# Altium footprint library BSPO.PcbLib: 178 footprints (part 7 of 12)
Each footprint in its own frame and in the unit in brackets; x right, y up, seen from the top. Pads: shape width x height; smd on the part's side, far side on the other; paste and mask are expansions set on the pad; w line width, h text height; cw(c..) or ccw(c..) is an arc to the next point about the centre after c.
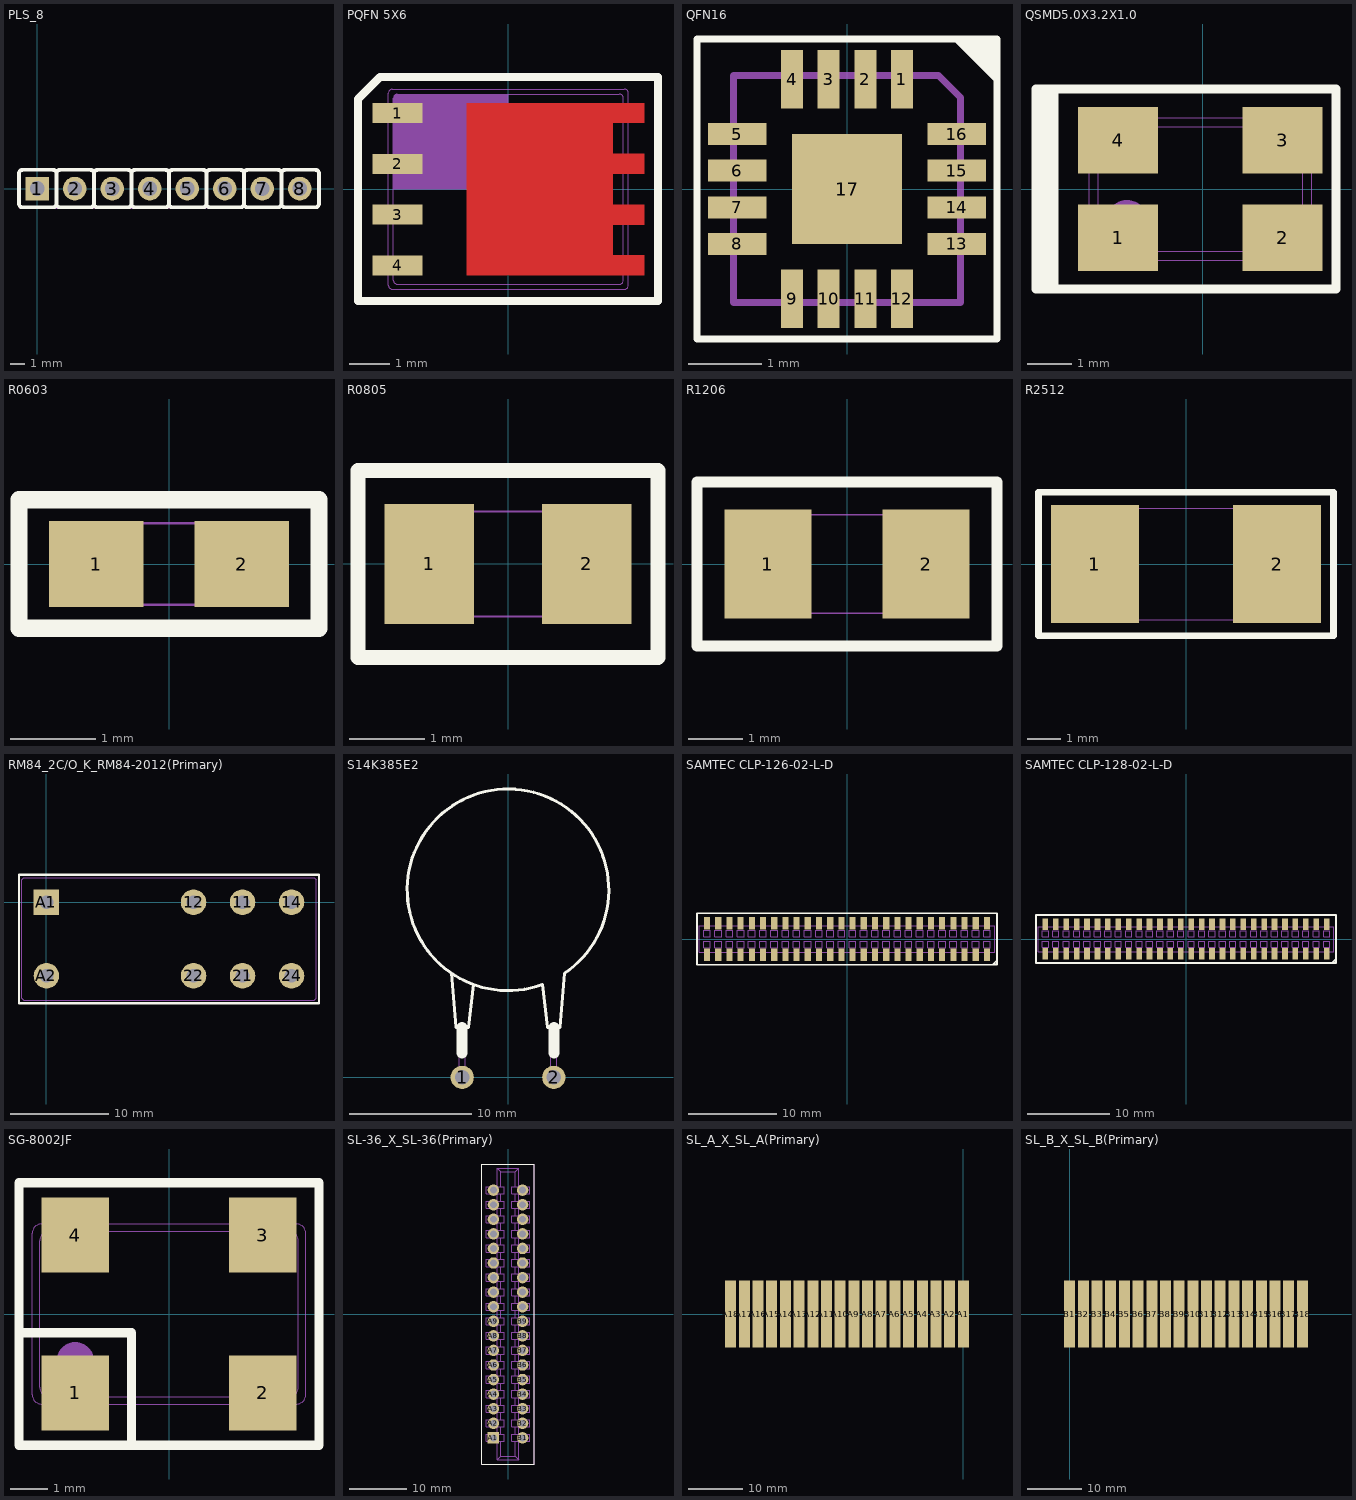
[diagram p6: the footprints below, top view; thin cyan lines are the x and y axes]

## PLS_8 [mm]
pads (8):
  rect 1.6x1.6 hole 1: 1(0,0)
  round 1.6 hole 1: 2(2.54,0) 3(5.08,0) 4(7.62,0) 5(10.16,0) 6(12.7,0) 7(15.24,0) 8(17.78,0)
Top Overlay:
  lines w0.25: 1.05,-1.27 ccw(c1.05,-1.02) 1.3,-1.02 ; 1.05,-1.27 -0.99,-1.27 cw(c-0.99,-1.02) -1.24,-1.02 -1.24,1.02 cw(c-0.99,1.02) -0.99,1.27 1.05,1.27 cw(c1.05,1.02) 1.3,1.02 ; 3.59,-1.27 ccw(c3.59,-1.02) 3.84,-1.02 ; 3.59,-1.27 1.55,-1.27 cw(c1.55,-1.02) 1.3,-1.02 ; 6.13,-1.27 ccw(c6.13,-1.02) 6.38,-1.02 ; 6.13,-1.27 4.09,-1.27 cw(c4.09,-1.02) 3.84,-1.02 ; 8.67,-1.27 ccw(c8.67,-1.02) 8.92,-1.02 ; 8.67,-1.27 6.63,-1.27 cw(c6.63,-1.02) 6.38,-1.02 ; 11.21,-1.27 ccw(c11.21,-1.02) 11.46,-1.02 ; 11.21,-1.27 9.17,-1.27 cw(c9.17,-1.02) 8.92,-1.02 ; 13.75,-1.27 ccw(c13.75,-1.02) 14,-1.02 ; 13.75,-1.27 11.71,-1.27 cw(c11.71,-1.02) 11.46,-1.02 ; 16.29,-1.27 ccw(c16.29,-1.02) 16.54,-1.02 ; 16.29,-1.27 14.25,-1.27 cw(c14.25,-1.02) 14,-1.02 ; 18.83,-1.27 ccw(c18.83,-1.02) 19.08,-1.02 19.08,1.02 ccw(c18.83,1.02) 18.83,1.27 16.79,1.27 ccw(c16.79,1.02) 16.54,1.02 ; 18.83,-1.27 16.79,-1.27 cw(c16.79,-1.02) 16.54,-1.02 ; 1.3,-1.02 1.3,1.02 ; 1.3,1.02 cw(c1.55,1.02) 1.55,1.27 3.59,1.27 cw(c3.59,1.02) 3.84,1.02 ; 3.84,-1.02 3.84,1.02 ; 3.84,1.02 cw(c4.09,1.02) 4.09,1.27 6.13,1.27 cw(c6.13,1.02) 6.38,1.02 ; 6.38,-1.02 6.38,1.02 ; 6.38,1.02 cw(c6.63,1.02) 6.63,1.27 8.67,1.27 cw(c8.67,1.02) 8.92,1.02 ; 8.92,-1.02 8.92,1.02 ; 8.92,1.02 cw(c9.17,1.02) 9.17,1.27 11.21,1.27 cw(c11.21,1.02) 11.46,1.02 ; 11.46,-1.02 11.46,1.02 ; 11.46,-1.02 11.46,1.02 ; 11.46,1.02 cw(c11.71,1.02) 11.71,1.27 13.75,1.27 cw(c13.75,1.02) 14,1.02 ; 14,-1.02 14,1.02 ; 14,-1.02 14,1.02 ; 14,1.02 cw(c14.25,1.02) 14.25,1.27 16.29,1.27 cw(c16.29,1.02) 16.54,1.02 ; 16.54,-1.02 16.54,1.02 ; 16.54,-1.02 16.54,1.02
Mechanical 1:
  lines w0.01: -1.21,-1.32 11.44,-1.32 ; -1.21,-1.31 -1.21,1.24 ; -1.21,1.25 11.44,1.25 ; 1.28,-1.32 1.28,1.23 ; 3.85,-1.3 3.85,1.25 ; 6.43,-1.3 6.43,1.25 ; 8.92,-1.29 8.92,1.25 ; 11.44,-1.31 11.44,1.23 ; 11.49,-1.31 11.49,1.24 ; 14.03,-1.31 14.03,1.24 ; 16.57,-1.31 16.57,1.24 ; 19.06,-1.31 19.06,1.23 ; 13.98,-1.31 13.98,1.23 13.98,-1.31 ; 16.52,-1.31 16.52,1.23 16.52,-1.31

## PQFN 5X6 [mm]
pads (5):
  rect 1.25x0.5 smd: 1(-2.77,1.905) 2(-2.77,0.635) 3(-2.77,-0.635) 4(-2.77,-1.905)
  round 0 smd paste-25.4: 5(1.18,0)
Top Layer:
  region: -1.045,-2.155 3.395,-2.155 3.395,-1.655 2.605,-1.655 2.605,-0.885 3.395,-0.885 3.395,-0.385 2.605,-0.385 2.605,0.385 3.395,0.385 3.395,0.885 2.605,0.885 2.605,1.655 3.395,1.655 3.395,2.155 -1.045,2.155
Top Overlay:
  lines w0.2: -3.76,-2.795 3.74,-2.795 3.74,2.805 -3.21,2.805 -3.76,2.255 -3.76,-2.795
Top Paste:
  region: -1.045,-2.155 3.395,-2.155 3.395,-1.655 2.605,-1.655 2.605,-0.885 3.395,-0.885 3.395,-0.385 2.605,-0.385 2.605,0.385 3.395,0.385 3.395,0.885 2.605,0.885 2.605,1.655 3.395,1.655 3.395,2.155 -1.045,2.155
  region: -1.045,-2.155 3.395,-2.155 3.395,-1.655 2.605,-1.655 2.605,-0.885 3.395,-0.885 3.395,-0.385 2.605,-0.385 2.605,0.385 3.395,0.385 3.395,0.885 2.605,0.885 2.605,1.655 3.395,1.655 3.395,2.155 -1.045,2.155
Mechanical 1:
  region: -2.875,0 0,0 0,2.375 -2.775,2.375 -2.825,2.362 -2.862,2.325 -2.875,2.275
  lines w0.02: 2.9,2.5 cw(c2.9,2.4) 3,2.4 ; 2.9,2.5 cw(c2.9,2.4) 3,2.4 ; 2.9,2.5 -2.9,2.5 ccw(c-2.9,2.4) -3,2.4 -3,-2.4 ccw(c-2.9,-2.4) -2.9,-2.5 2.9,-2.5 ccw(c2.9,-2.4) 3,-2.4 3,2.4 ; -2.875,-2.275 ccw(c-2.775,-2.275) -2.775,-2.375 2.775,-2.375 ccw(c2.775,-2.275) 2.875,-2.275 2.875,2.275 ccw(c2.775,2.275) 2.775,2.375 -2.775,2.375 ccw(c-2.775,2.275) -2.875,2.275 -2.875,-2.275

## QFN16 [mm]
pads (17):
  rect 0.3x0.8 smd: 1(0.75,1.5) 2(0.25,1.5) 3(-0.25,1.5) 4(-0.75,1.5) 9(-0.75,-1.5) 10(-0.25,-1.5) 11(0.25,-1.5) 12(0.75,-1.5)
  rect 0.8x0.3 smd: 5(-1.5,0.75) 6(-1.5,0.25) 7(-1.5,-0.25) 8(-1.5,-0.75) 13(1.5,-0.75) 14(1.5,-0.25) 15(1.5,0.25) 16(1.5,0.75)
  rect 1.5x1.5 smd: 17(0,0)
Top Overlay:
  region: 1.55,2.05 2.05,1.55 2.05,2.05
  lines w0.1: 1.5,2.05 2.05,1.5 ; -2.05,-2.05 2.05,-2.05 2.05,2.05 -2.05,2.05 -2.05,-2.05
Mechanical 1:
  lines w0.1: -1.55,-1.55 1.55,-1.55 1.55,1.25 1.25,1.55 -1.55,1.55 -1.55,-1.55

## QSMD5.0X3.2X1.0 [mm]
pads (4):
  rect 1.8x1.5 smd: 1(-1.9,-1.1) 2(1.8,-1.1) 3(1.8,1.1) 4(-1.9,1.1)
Top Overlay:
  region: -3.75,-2.25 -3.25,-2.25 -3.25,2.25 -3.75,2.25
  lines w0.2: -3.75,-2.25 3,-2.25 3,2.25 -3.75,2.25 -3.75,-2.25
Mechanical 1:
  circle w0.5: c-1.7,-0.75 r0.25
  lines w0.025: -2.55,-1.35 ccw(c-2.3,-1.35) -2.3,-1.6 2.2,-1.6 ccw(c2.2,-1.35) 2.45,-1.35 2.45,1.35 ccw(c2.2,1.35) 2.2,1.6 -2.3,1.6 ccw(c-2.3,1.35) -2.55,1.35 -2.55,-1.35 ; -2.35,-1.15 ccw(c-2.1,-1.15) -2.1,-1.4 2,-1.4 ccw(c2,-1.15) 2.25,-1.15 2.25,1.15 ccw(c2,1.15) 2,1.4 -2.1,1.4 ccw(c-2.1,1.15) -2.35,1.15 -2.35,-1.15

## R0603 [mm]
pads (2):
  rect 1.1x1 smd: 1(-0.85,0) 2(0.85,0)
Top Overlay:
  lines w0.2: -1.75,-0.75 1.75,-0.75 1.75,0.75 -1.75,0.75 -1.75,-0.75
Mechanical 1:
  lines w0.025: -0.55,-0.475 -0.55,0.475 ; 0.55,-0.475 0.55,0.475 ; -0.85,-0.475 0.85,-0.475 0.85,0.475 -0.85,0.475 -0.85,-0.475

## R0805 [mm]
pads (2):
  rect 1.2x1.6 smd: 1(-1.05,0) 2(1.05,0)
Top Overlay:
  lines w0.2: -2,-1.25 2,-1.25 2,1.25 -2,1.25 -2,-1.25
Mechanical 1:
  lines w0.025: -0.55,-0.7 -0.55,0.7 ; 0.55,-0.7 0.55,0.7 ; -1.1,-0.7 1.1,-0.7 1.1,0.7 -1.1,0.7 -1.1,-0.7

## R1206 [mm]
pads (2):
  rect 1.6x2 smd: 1(-1.45,0) 2(1.45,0)
Top Overlay:
  lines w0.2: -2.75,-1.5 2.75,-1.5 2.75,1.5 -2.75,1.5 -2.75,-1.5
Mechanical 1:
  lines w0.025: -0.95,-0.9 -0.95,0.9 ; 0.95,-0.9 0.95,0.9 ; -1.7,-0.9 1.7,-0.9 1.7,0.9 -1.7,0.9 -1.7,-0.9

## R2512 [mm]
pads (2):
  rect 2.6x3.5 smd: 1(-2.7,0) 2(2.7,0)
Top Overlay:
  lines w0.2: -4.375,-2.125 4.375,-2.125 4.375,2.125 -4.375,2.125 -4.375,-2.125
Mechanical 1:
  lines w0.02: -2.55,-1.65 -2.55,1.65 ; 2.55,-1.65 2.55,1.65 ; -3.25,-1.65 3.25,-1.65 3.25,1.65 -3.25,1.65 -3.25,-1.65

## RM84_2C/O_K_RM84-2012(Primary) [mm]
pads (8):
  round 2.6 hole 1.4: 11(20,0) 12(15,0) 14(25,0) 21(20,-7.5) 22(15,-7.5) 24(25,-7.5) A2(0,-7.5)
  rect 2.6x2.6 hole 1.4: A1(0,0)
Top Overlay:
  lines w0.25: -2.8,-10.3 -2.8,2.8
  lines w0.254: -2.8,-10.3 27.8,-10.3 27.8,2.8 -2.8,2.8
Mechanical 1:
  lines w0.025: -2.5,-9.8 -2.5,2.3 -2.3,2.5 27.3,2.5 27.5,2.3 27.5,-9.8 27.3,-10 -2.3,-10 -2.5,-9.8

## S14K385E2 [mm]
pads (2):
  round 1.9 hole 1.2: 1(-3.75,0) 2(3.75,0)
Top Overlay:
  lines w0.25: -4.619,8.514 -4.25,4.1 -3.25,4.1 -2.808,7.592 ; 2.795,7.588 cw(c0,15.35) 4.613,8.51 ; 2.808,7.592 3.25,4.1 4.25,4.1 4.619,8.514
  lines w0.9: -3.75,2 -3.75,4.1 ; 3.75,2 3.75,4.1
Mechanical 1:
  lines w0.025: -4.619,8.514 -4.25,4.1 -3.25,4.1 -2.808,7.592 ; -4,4.1 -4,0 ccw(c-3.75,0) -3.5,0 -3.5,4.1 ; 2.795,7.588 cw(c0,15.35) 4.613,8.51 ; 2.808,7.592 3.25,4.1 4.25,4.1 4.619,8.514 ; 3.5,4.1 3.5,0 ccw(c3.75,0) 4,0 4,4.1

## SAMTEC CLP-126-02-L-D [mm]
pads (52):
  rect 0.7x1.4 smd: 1(15.875,-1.778) 2(15.875,1.778) 3(14.605,-1.778) 4(14.605,1.778) 5(13.335,-1.778) 6(13.335,1.778) 7(12.065,-1.778) 8(12.065,1.778) 9(10.795,-1.778) 10(10.795,1.778) 11(9.525,-1.778) 12(9.525,1.778) 13(8.255,-1.778) 14(8.255,1.778) 15(6.985,-1.778) 16(6.985,1.778) 17(5.715,-1.778) 18(5.715,1.778) 19(4.445,-1.778) 20(4.445,1.778) 21(3.175,-1.778) 22(3.175,1.778) 23(1.905,-1.778) 24(1.905,1.778) 25(0.635,-1.778) 26(0.635,1.778) 27(-0.635,-1.778) 28(-0.635,1.778) 29(-1.905,-1.778) 30(-1.905,1.778) 31(-3.175,-1.778) 32(-3.175,1.778) 33(-4.445,-1.778) 34(-4.445,1.778) 35(-5.715,-1.778) 36(-5.715,1.778) 37(-6.985,-1.778) 38(-6.985,1.778) 39(-8.255,-1.778) 40(-8.255,1.778) 41(-9.525,-1.778) 42(-9.525,1.778) 43(-10.795,-1.778) 44(-10.795,1.778) 45(-12.065,-1.778) 46(-12.065,1.778) 47(-13.335,-1.778) 48(-13.335,1.778) 49(-14.605,-1.778) 50(-14.605,1.778) 51(-15.875,-1.778) 52(-15.875,1.778)
Top Overlay:
  lines w0.2: 16.51,-2.921 17.018,-2.413 ; 16.764,-2.921 17.018,-2.667 ; -17.018,-2.921 17.018,-2.921 17.018,2.921 -17.018,2.921 -17.018,-2.921
Mechanical 1:
  drawing of 368 lines, arcs and shapes, not listed

## SAMTEC CLP-128-02-L-D [mm]
pads (56):
  rect 0.7x1.4 smd: 1(17.145,-1.778) 2(17.145,1.778) 3(15.875,-1.778) 4(15.875,1.778) 5(14.605,-1.778) 6(14.605,1.778) 7(13.335,-1.778) 8(13.335,1.778) 9(12.065,-1.778) 10(12.065,1.778) 11(10.795,-1.778) 12(10.795,1.778) 13(9.525,-1.778) 14(9.525,1.778) 15(8.255,-1.778) 16(8.255,1.778) 17(6.985,-1.778) 18(6.985,1.778) 19(5.715,-1.778) 20(5.715,1.778) 21(4.445,-1.778) 22(4.445,1.778) 23(3.175,-1.778) 24(3.175,1.778) 25(1.905,-1.778) 26(1.905,1.778) 27(0.635,-1.778) 28(0.635,1.778) 29(-0.635,-1.778) 30(-0.635,1.778) 31(-1.905,-1.778) 32(-1.905,1.778) 33(-3.175,-1.778) 34(-3.175,1.778) 35(-4.445,-1.778) 36(-4.445,1.778) 37(-5.715,-1.778) 38(-5.715,1.778) 39(-6.985,-1.778) 40(-6.985,1.778) 41(-8.255,-1.778) 42(-8.255,1.778) 43(-9.525,-1.778) 44(-9.525,1.778) 45(-10.795,-1.778) 46(-10.795,1.778) 47(-12.065,-1.778) 48(-12.065,1.778) 49(-13.335,-1.778) 50(-13.335,1.778) 51(-14.605,-1.778) 52(-14.605,1.778) 53(-15.875,-1.778) 54(-15.875,1.778) 55(-17.145,-1.778) 56(-17.145,1.778)
Top Overlay:
  lines w0.2: 17.78,-2.921 18.288,-2.413 ; 18.034,-2.921 18.288,-2.667 ; -18.288,-2.921 18.288,-2.921 18.288,2.921 -18.288,2.921 -18.288,-2.921
Mechanical 1:
  drawing of 396 lines, arcs and shapes, not listed

## SG-8002JF [mm]
pads (4):
  rect 1.8x2 smd: 1(-2.5,-2.1) 2(2.5,-2.1) 3(2.5,2.1) 4(-2.5,2.1)
Top Overlay:
  lines w0.25: -4,-0.5 -1,-0.5 -1,-3.5 ; -4,-3.5 4,-3.5 4,3.5 -4,3.5 -4,-3.5
Mechanical 1:
  circle w0.5: c-2.5,-1.25 r0.25
  lines w0.025: -2.7,-2.4 -2.7,-2.65 -2.3,-2.65 -2.3,-2.4 ; -2.7,2.4 -2.7,2.65 -2.3,2.65 -2.3,2.4 ; 2.3,-2.4 2.3,-2.65 2.7,-2.65 2.7,-2.4 ; 2.3,2.4 2.3,2.65 2.7,2.65 2.7,2.4 ; -3.65,-2.15 ccw(c-3.4,-2.15) -3.4,-2.4 3.4,-2.4 ccw(c3.4,-2.15) 3.65,-2.15 3.65,2.15 ccw(c3.4,2.15) 3.4,2.4 -3.4,2.4 ccw(c-3.4,2.15) -3.65,2.15 -3.65,-2.15 ; -3.45,-1.95 ccw(c-3.2,-1.95) -3.2,-2.2 3.2,-2.2 ccw(c3.2,-1.95) 3.45,-1.95 3.45,1.95 ccw(c3.2,1.95) 3.2,2.2 -3.2,2.2 ccw(c-3.2,1.95) -3.45,1.95 -3.45,-1.95

## SL-36_X_SL-36(Primary) [mm]
pads (36):
  rect 2x2 hole 1.2: A1(-2.54,-21.59)
  round 2 hole 1.2: A2(-2.54,-19.05) A3(-2.54,-16.51) A4(-2.54,-13.97) A5(-2.54,-11.43) A6(-2.54,-8.89) A7(-2.54,-6.35) A8(-2.54,-3.81) A9(-2.54,-1.27) A10(-2.54,1.27) A11(-2.54,3.81) A12(-2.54,6.35) A13(-2.54,8.89) A14(-2.54,11.43) A15(-2.54,13.97) A16(-2.54,16.51) A17(-2.54,19.05) A18(-2.54,21.59) B1(2.54,-21.59) B2(2.54,-19.05) B3(2.54,-16.51) B4(2.54,-13.97) B5(2.54,-11.43) B6(2.54,-8.89) B7(2.54,-6.35) B8(2.54,-3.81) B9(2.54,-1.27) B10(2.54,1.27) B11(2.54,3.81) B12(2.54,6.35) B13(2.54,8.89) B14(2.54,11.43) B15(2.54,13.97) B16(2.54,16.51) B17(2.54,19.05) B18(2.54,21.59)
Top Overlay:
  lines w0.2: -4.6,-26.15 4.6,-26.15 4.6,26.15 -4.6,26.15 -4.6,-26.15
Mechanical 1:
  drawing of 232 lines, arcs and shapes, not listed

## SL_A_X_SL_A(Primary) [mm]
pads (18):
  rect 2.04x12.5 smd: A1(0,0) A2(-2.54,0) A3(-5.08,0) A4(-7.62,0) A5(-10.16,0) A6(-12.7,0) A7(-15.24,0) A8(-17.78,0) A9(-20.32,0) A10(-22.86,0) A11(-25.4,0) A12(-27.94,0) A13(-30.48,0) A14(-33.02,0) A15(-35.56,0) A16(-38.1,0) A17(-40.64,0) A18(-43.18,0)

## SL_B_X_SL_B(Primary) [mm]
pads (18):
  rect 2.04x12.5 smd: B1(0,0) B2(2.54,0) B3(5.08,0) B4(7.62,0) B5(10.16,0) B6(12.7,0) B7(15.24,0) B8(17.78,0) B9(20.32,0) B10(22.86,0) B11(25.4,0) B12(27.94,0) B13(30.48,0) B14(33.02,0) B15(35.56,0) B16(38.1,0) B17(40.64,0) B18(43.18,0)